# Altium footprint library MPL3115A2R1.PcbLib: 1 footprints
Each footprint in its own frame and in the unit in brackets; x right, y up, seen from the top. Pads: shape width x height; smd on the part's side, far side on the other; paste and mask are expansions set on the pad; w line width, h text height; cw(c..) or ccw(c..) is an arc to the next point about the centre after c.
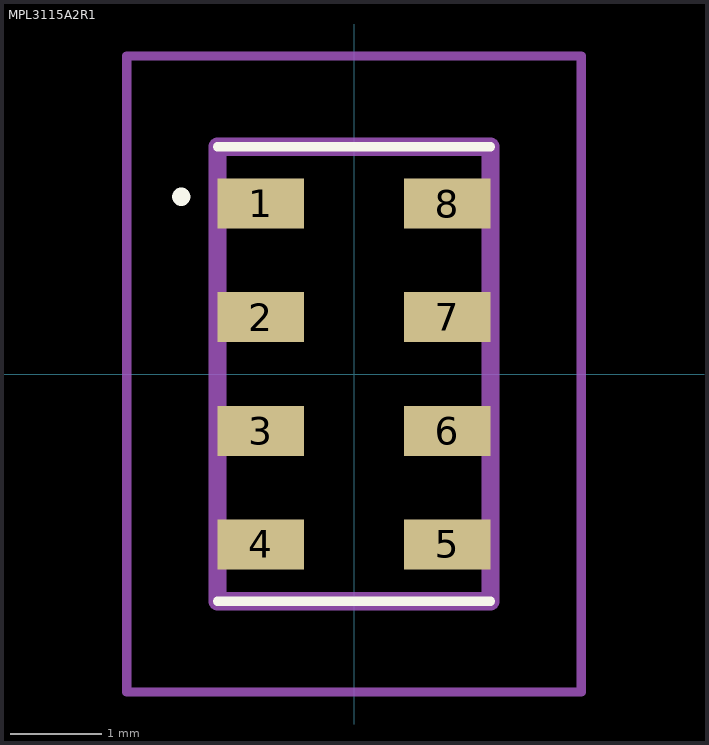
[diagram p0: the footprint, top view; thin cyan lines are the x and y axes]

## MPL3115A2R1 [mm]
pads (8):
  rect 0.95x0.55 smd: 1(-1.025,1.875) 2(-1.025,0.625) 3(-1.025,-0.625) 4(-1.025,-1.875) 5(1.025,-1.875) 6(1.025,-0.625) 7(1.025,0.625) 8(1.025,1.875)
Top Overlay:
  lines w0.1: -1.5,-2.5 1.5,-2.5 ; -1.5,2.5 1.5,2.5 ; -1.9,1.9 ccw(c-1.9,1.95) -1.9,2 ; -1.9,1.9 -1.9,1.9 ; -1.9,1.9 cw(c-1.9,1.95) -1.9,2 ; -1.9,2 -1.9,2
Mechanical 15:
  lines w0.2: -1.5,-2.5 1.5,-2.5 1.5,2.5 -1.5,2.5 -1.5,-2.5
Mechanical 20:
  lines w0.1: -2.5,-3.5 2.5,-3.5 2.5,3.5 -2.5,3.5 -2.5,-3.5